# Altium footprint library LM317LCPK.PcbLib: 1 footprints
Each footprint in its own frame and in the unit in brackets; x right, y up, seen from the top. Pads: shape width x height; smd on the part's side, far side on the other; paste and mask are expansions set on the pad; w line width, h text height; cw(c..) or ccw(c..) is an arc to the next point about the centre after c.
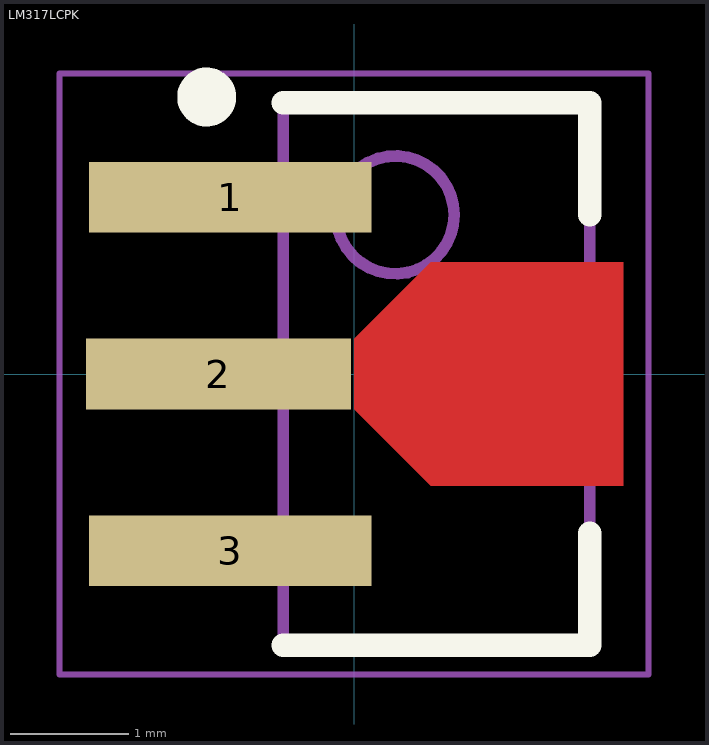
[diagram p0: the footprint, top view; thin cyan lines are the x and y axes]

## LM317LCPK [mm] "SOT89-150P350X160-3N, SOT89, 3-Leads, Body 4.50x2.50mm, Pitch 1.50mm, Lead Span 3.5mm, IPC Medium Density"
height 1.6
pads (3):
  rect 2.4x0.6 smd: 1(-1.05,1.5) 3(-1.05,-1.5)
  rect 2.25x0.6 smd: 2(-1.15,0)
Top Layer:
  region: 0,0.3 0.65,0.95 1.6,0.95 2.159,0.95 2.286,0.95 2.286,0.762 2.286,0.508 2.286,0.067 2.286,-0.264 2.286,-0.95 1.6,-0.95 0.65,-0.95 0,-0.3 0,-0.025
Top Overlay:
  circle w0.25: c-1.25,2.35 r0.125
  lines w0.2: -0.6,-2.3 2,-2.3 2,-1.35 ; -0.6,2.3 2,2.3 2,1.35
Mechanical 13:
  circle w0.1: c0.35,1.35 r0.5
  lines w0.1: -0.6,-2.3 2,-2.3 2,2.3 -0.6,2.3 -0.6,-2.3
Mechanical 15:
  lines w0.05: -2.5,-2.55 2.5,-2.55 2.5,2.55 -2.5,2.55 -2.5,-2.55
  lines w0.1: 0.2,0 1.2,0 ; 0.7,-0.5 0.7,0.5
3D body: height 1.6, standoff 0, extent -0.6,-2.3 2,2.3